# EAGLE library part PCB-100X80-NAKED (library dimrobotics)
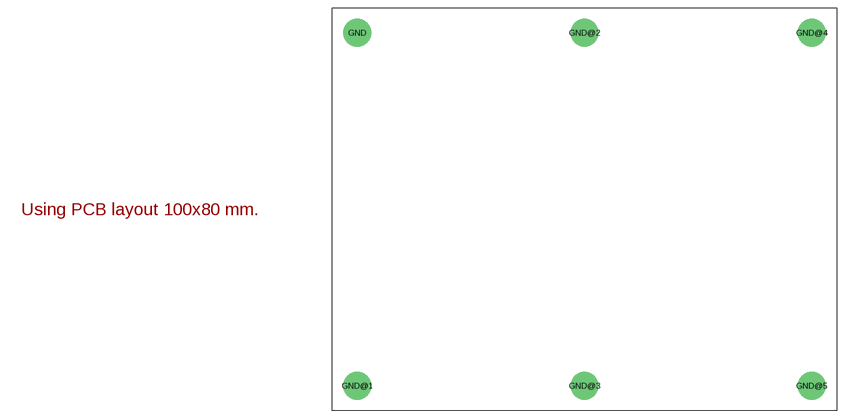
[diagram p4: symbol with the pads of PCB-100X80-NAKED; footprint PCB-100X80-NAKED]

Designator prefix -

## PCB-100X80-NAKED  [PCB-100X80-NAKED]
GND  GND  pwr
GND@1  GND  pwr
GND@2  GND  pwr
GND@3  GND  pwr
GND@4  GND  pwr
GND@5  GND  pwr

## Footprint PCB-100X80-NAKED (pad centres in mm)
drill 3.2 pad 5.5: GND 5,75; GND@1 5,5; GND@2 50,75; GND@3 50,5; GND@4 95,75; GND@5 95,5